# Altium footprint library WR-WTB_2.50mm.PcbLib: 24 footprints (part 2 of 2)
Each footprint in its own frame and in the unit in brackets; x right, y up, seen from the top. Pads: shape width x height; smd on the part's side, far side on the other; paste and mask are expansions set on the pad; w line width, h text height; cw(c..) or ccw(c..) is an arc to the next point about the centre after c.
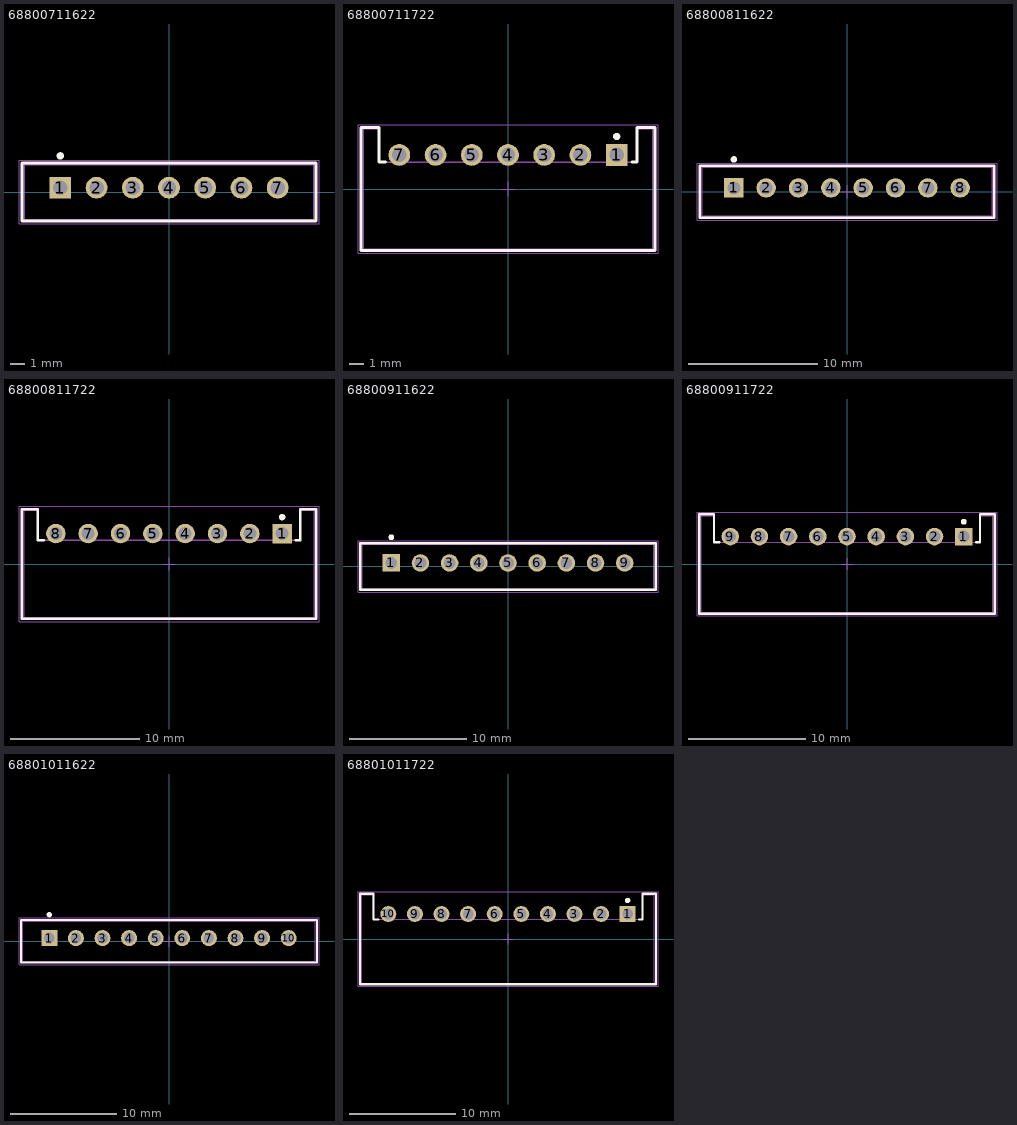
[diagram p1: the footprints below, top view; thin cyan lines are the x and y axes]

## 68800711622 [mm] "2.50mm Ў°JЎ± Type Vertical Male Shrouded Header, 7p"
height 6
pads (7):
  rect 1.5x1.5 hole 1: 1(-7.5,0.3)
  round 1.5 hole 1: 2(-5,0.3) 3(-2.5,0.3) 4(0,0.3) 5(2.5,0.3) 6(5,0.3) 7(7.5,0.3)
Top Overlay:
  circle w0.25: c-7.5,2.5 r0.125
  lines w0.2: -10.15,-2 10.15,-2 10.15,2 -10.15,2 -10.15,-2
Mechanical 13:
  lines w0.1: -10,-1.9 -10,1.9 10,1.9 10,-1.9 -10,-1.9
Mechanical 15:
  lines w0.05: -0.5,0 0.5,0 ; 0,-0.5 0,0.5 ; -10.35,-2.2 10.35,-2.2 10.35,2.2 -10.35,2.2 -10.35,-2.2
3D body "68800711622.stp": height 6.03, standoff -3.18, extent -10,-1.9 10,1.9

## 68800711722 [mm] "2.50mm Ў°JЎ± Type Male Horizontal Shrouded Header, 7p"
height 4.2
pads (7):
  rect 1.5x1.5 hole 1: 1(7.5,2.35)
  round 1.5 hole 1: 2(5,2.35) 3(2.5,2.35) 4(0,2.35) 5(-2.5,2.35) 6(-5,2.35) 7(-7.5,2.35)
Top Overlay:
  circle w0.25: c7.5,3.625 r0.125
  lines w0.2: -8.45,1.85 -8.9,1.85 -8.9,4.25 -10.15,4.25 -10.15,-4.25 10.15,-4.25 10.15,4.25 8.9,4.25 8.9,1.85 8.55,1.85
Mechanical 13:
  lines w0.1: -10,-4.15 -10,4.15 -8.9,4.15 -8.9,1.85 8.9,1.85 8.9,4.15 10,4.15 10,-4.15 -10,-4.15
Mechanical 15:
  lines w0.05: -0.5,0 0.5,0 ; 0,-0.5 0,0.5 ; -10.35,-4.45 10.35,-4.45 10.35,4.45 -10.35,4.45 -10.35,-4.45
3D body "68800711722.stp": height 4.23, standoff -3.27, extent -10,-4.15 10,4.15

## 68800811622 [mm] "2.50mm Ў°JЎ± Type Vertical Male Shrouded Header, 8p"
height 6
pads (8):
  rect 1.5x1.5 hole 1: 1(-8.75,0.3)
  round 1.5 hole 1: 2(-6.25,0.3) 3(-3.75,0.3) 4(-1.25,0.3) 5(1.25,0.3) 6(3.75,0.3) 7(6.25,0.3) 8(8.75,0.3)
Top Overlay:
  circle w0.25: c-8.75,2.5 r0.125
  lines w0.2: -11.4,-2 11.4,-2 11.4,2 -11.4,2 -11.4,-2
Mechanical 13:
  lines w0.1: -11.25,-1.9 -11.25,1.9 11.25,1.9 11.25,-1.9 -11.25,-1.9
Mechanical 15:
  lines w0.05: -0.5,0 0.5,0 ; 0,-0.5 0,0.5 ; -11.6,-2.2 11.6,-2.2 11.6,2.2 -11.6,2.2 -11.6,-2.2
3D body "68800811622.stp": height 6.03, standoff -3.18, extent -11.25,-1.9 11.25,1.9

## 68800811722 [mm] "2.50mm Ў°JЎ± Type Male Horizontal Shrouded Header, 8p"
height 4.2
pads (8):
  rect 1.5x1.5 hole 1: 1(8.75,2.35)
  round 1.5 hole 1: 2(6.25,2.35) 3(3.75,2.35) 4(1.25,2.35) 5(-1.25,2.35) 6(-3.75,2.35) 7(-6.25,2.35) 8(-8.75,2.35)
Top Overlay:
  circle w0.25: c8.75,3.625 r0.125
  lines w0.2: -9.7,1.85 -10.15,1.85 -10.15,4.25 -11.4,4.25 -11.4,-4.25 11.4,-4.25 11.4,4.25 10.15,4.25 10.15,1.85 9.8,1.85
Mechanical 13:
  lines w0.1: -11.25,-4.15 11.25,-4.15 11.25,4.15 10.15,4.15 10.15,1.85 -10.15,1.85 -10.15,4.15 -11.25,4.15 -11.25,-4.15
Mechanical 15:
  lines w0.05: -0.5,0 0.5,0 ; 0,-0.5 0,0.5 ; -11.6,-4.45 -11.6,4.45 11.6,4.45 11.6,-4.45 -11.6,-4.45
3D body "68800811722.stp": height 4.23, standoff -3.27, extent -11.25,-4.15 11.25,4.15

## 68800911622 [mm] "2.50mm Ў°JЎ± Type Vertical Male Shrouded Header, 9p"
height 6
pads (9):
  rect 1.5x1.5 hole 1: 1(-10,0.3)
  round 1.5 hole 1: 2(-7.5,0.3) 3(-5,0.3) 4(-2.5,0.3) 5(0,0.3) 6(2.5,0.3) 7(5,0.3) 8(7.5,0.3) 9(10,0.3)
Top Overlay:
  circle w0.25: c-10,2.5 r0.125
  lines w0.2: -12.65,-2 12.65,-2 12.65,2 -12.65,2 -12.65,-2
Mechanical 13:
  lines w0.1: -12.5,-1.9 -12.5,1.9 12.5,1.9 12.5,-1.9 -12.5,-1.9
Mechanical 15:
  lines w0.05: -0.5,0 0.5,0 ; 0,-0.5 0,0.5 ; -12.85,-2.2 12.85,-2.2 12.85,2.2 -12.85,2.2 -12.85,-2.2
3D body "68800911622.stp": height 6.03, standoff -3.18, extent -12.5,-1.9 12.5,1.9

## 68800911722 [mm] "2.50mm Ў°JЎ± Type Male Horizontal Shrouded Header, 9p"
height 4.2
pads (9):
  rect 1.5x1.5 hole 1: 1(10,2.35)
  round 1.5 hole 1: 2(7.5,2.35) 3(5,2.35) 4(2.5,2.35) 5(0,2.35) 6(-2.5,2.35) 7(-5,2.35) 8(-7.5,2.35) 9(-10,2.35)
Top Overlay:
  circle w0.25: c10,3.625 r0.125
  lines w0.2: -10.95,1.85 -11.4,1.85 -11.4,4.25 -12.65,4.25 -12.65,-4.25 12.65,-4.25 12.65,4.25 11.4,4.25 11.4,1.85 11.05,1.85
Mechanical 13:
  lines w0.1: -12.5,-4.15 -12.5,4.15 -11.4,4.15 -11.4,1.85 11.4,1.85 11.4,4.15 12.5,4.15 12.5,-4.15 -12.5,-4.15
Mechanical 15:
  lines w0.05: -0.5,0 0.5,0 ; 0,-0.5 0,0.5 ; -12.85,-4.45 12.85,-4.45 12.85,4.45 -12.85,4.45 -12.85,-4.45
3D body "68800911722.stp": height 4.23, standoff -3.27, extent -12.5,-4.15 12.5,4.15

## 68801011622 [mm] "2.50mm Ў°JЎ± Type Vertical Male Shrouded Header, 10p"
height 6
pads (10):
  rect 1.5x1.5 hole 1: 1(-11.25,0.3)
  round 1.5 hole 1: 2(-8.75,0.3) 3(-6.25,0.3) 4(-3.75,0.3) 5(-1.25,0.3) 6(1.25,0.3) 7(3.75,0.3) 8(6.25,0.3) 9(8.75,0.3) 10(11.25,0.3)
Top Overlay:
  circle w0.25: c-11.25,2.5 r0.125
  lines w0.2: -13.9,-2 -13.9,2 13.9,2 13.9,-2 -13.9,-2
Mechanical 13:
  lines w0.1: -13.75,-1.9 13.75,-1.9 13.75,1.9 -13.75,1.9 -13.75,-1.9
Mechanical 15:
  lines w0.05: -0.5,0 0.5,0 ; 0,-0.5 0,0.5 ; -14.1,-2.2 -14.1,2.2 14.1,2.2 14.1,-2.2 -14.1,-2.2
3D body "68801011622.stp": height 6.03, standoff -3.18, extent -13.75,-1.9 13.75,1.9

## 68801011722 [mm] "2.50mm Ў°JЎ± Type Male Horizontal Shrouded Header, 10p"
height 4.2
pads (10):
  rect 1.5x1.5 hole 1: 1(11.25,2.35)
  round 1.5 hole 1: 2(8.75,2.35) 3(6.25,2.35) 4(3.75,2.35) 5(1.25,2.35) 6(-1.25,2.35) 7(-3.75,2.35) 8(-6.25,2.35) 9(-8.75,2.35) 10(-11.25,2.35)
Top Overlay:
  circle w0.25: c11.25,3.625 r0.125
  lines w0.2: -12.2,1.85 -12.65,1.85 -12.65,4.25 -13.9,4.25 -13.9,-4.25 13.9,-4.25 13.9,4.25 12.65,4.25 12.65,1.85 12.3,1.85
Mechanical 13:
  lines w0.1: -13.75,-4.15 13.75,-4.15 13.75,4.15 12.65,4.15 12.65,1.85 -12.65,1.85 -12.65,4.15 -13.75,4.15 -13.75,-4.15
Mechanical 15:
  lines w0.05: -0.5,0 0.5,0 ; 0,-0.5 0,0.5 ; -14.1,-4.45 -14.1,4.45 14.1,4.45 14.1,-4.45 -14.1,-4.45
3D body "68801011722.stp": height 4.23, standoff -3.27, extent -13.75,-4.15 13.75,4.15